# Altium footprint library 81801_1.PcbLib: 23 footprints (part 1 of 2)
Each footprint in its own frame and in the unit in brackets; x right, y up, seen from the top. Pads: shape width x height; smd on the part's side, far side on the other; paste and mask are expansions set on the pad; w line width, h text height; cw(c..) or ccw(c..) is an arc to the next point about the centre after c.
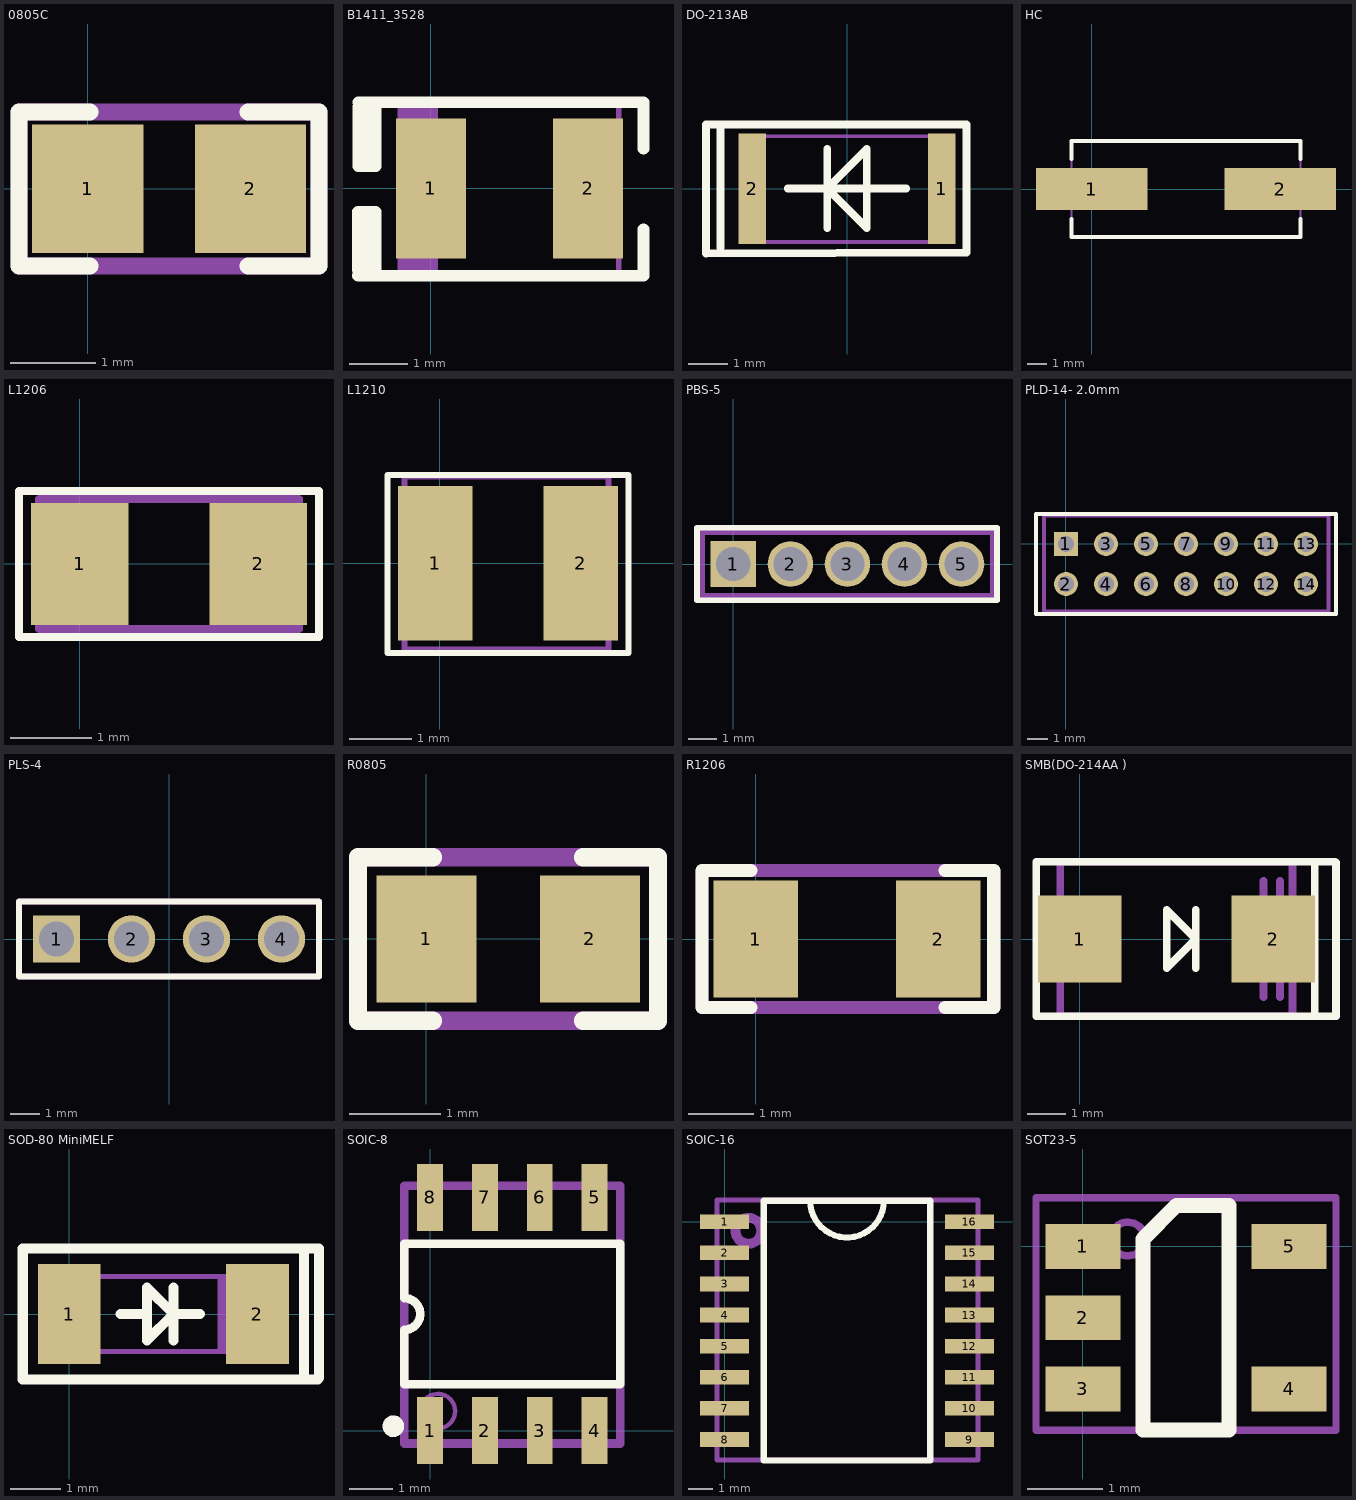
[diagram p0: the footprints below, top view; thin cyan lines are the x and y axes]

## 0805C [mm]
height 1.3
pads (2):
  rect 1.3x1.5 smd: 1(0,0) 2(1.9,0)
Top Overlay:
  lines w0.2: 0.023,0.898 -0.802,0.898 -0.801,-0.902 0.024,-0.902 ; 1.873,0.898 2.698,0.898 2.7,-0.902 1.874,-0.902
Mechanical 29:
  lines w0.2: -0.802,-0.902 2.698,-0.902 2.698,0.898 -0.802,0.898 -0.802,-0.902
  text "'.Designator'" at -0.85,-0.2 h0.4
3D body "CAP_0805.step": height 0.8, standoff 0, extent -0.401,-0.626 2.399,0.624

## B1411_3528 [mm] "Molded Capacitor, 2-Leads, Body 3.50x2.80mm, IPC Medium Density"
height 2
pads (2):
  rect 1.2x2.4 smd: 1(0,0) 2(2.7,0)
Top Overlay:
  region: -1.245,0.38 -1.245,1.48 -0.945,1.48 -0.945,0.38
  region: -1.25,-0.4 -1.25,-1.5 -0.95,-1.5 -0.95,-0.4
  lines w0.2: -1.25,-1.5 -0.95,-1.5 -0.95,-0.4 -1.25,-0.4 -1.25,-1.4 -1.15,-1.5 3.65,-1.5 3.65,-0.7 ; -1.245,1.48 -0.945,1.48 -0.945,0.38 -1.245,0.38 -1.245,1.405 -1.17,1.48 3.65,1.48 3.65,0.68
Mechanical 29:
  rectangle: -0.525,-1.45 0.125,1.45
  lines w0.1: -0.525,-1.45 3.225,-1.45 3.225,1.45 -0.525,1.45 -0.525,-1.45
  text "'.Designator'" at 0.225,-0.167 h0.4
3D body "CAP TANT - 1411 - 2.0MM.step": height 2, standoff 0, extent -0.515,-1.45 3.215,1.45

## DO-213AB [mm]
pads (2):
  rect 0.7x2.8 smd: 1(2.4,0) 2(-2.4,0)
Top Overlay:
  lines w0.2: -3.325,1.625 3.025,1.625 3.025,-1.625 -3.575,-1.648 -3.575,1.625 -3.2,1.625 -3.2,-1.5 ; -1.5,0 1.5,0 ; -0.5,-1 -0.5,1 ; -0.5,0 0.5,1 ; -0.5,0 -0.5,0 ; -0.5,0 0.5,-1 0.5,1 ; 0.5,1 0.5,1
Mechanical 29:
  lines w0.1: -2.3,-1.325 -2.3,1.325 ; -2.6,-1.35 -2.6,1.325 2.6,1.325 2.6,-1.35 -2.6,-1.35
  text "'.Designator'" at -2.2,-0.217 h0.7
3D body "User Library-Vishay - MELF DO-213AB.STEP": height 2.64, standoff -0.04, extent -2.6,-1.35 2.6,1.32

## HC [mm] "Crystal, 2-Leads, Body 4.70x11.40mm, Pitch 8.80mm, IPC Medium Density"
height 4.2
pads (2):
  rect 5.6x2.1 smd: 1(0,0) 2(9.5,0)
Top Overlay:
  lines w0.2: -1.025,-1.5 -1.025,-2.425 10.525,-2.425 10.525,-1.5 ; -1.025,1.5 -1.025,2.425 10.525,2.425 10.525,1.5
Mechanical 29:
  lines w0.1: -1.025,-2.425 -1.025,2.425 10.525,2.425 10.525,-2.425 -1.025,-2.425
  text "'.Designator'" at 0.95,-0.267 h0.7
3D body "HC49US SMT Crystal.STEP": height 4.2, standoff 0, extent -1.6,-2.35 11.1,2.35

## L1206 [mm] "L1206"
height 0.8
pads (2):
  rect 1.2x1.5 smd: 1(0,0) 2(2.2,0)
Top Overlay:
  lines w0.1: -0.75,-0.9 2.95,-0.9 2.95,0.9 -0.75,0.9 -0.75,-0.9
Mechanical 29:
  lines w0.1: -0.5,-0.8 2.7,-0.8 2.7,0.8 -0.5,0.8 -0.5,-0.8
  text "'.Designator'" at -0.3,-0.15 h0.4
3D body "Murata - LQH31.step": height 2, standoff 0, extent -0.5,-0.8 2.7,0.8

## L1210 [mm] "L1210"
height 0.8
pads (2):
  rect 1.2x2.5 smd: 1(-0.075,0) 2(2.275,0)
Top Overlay:
  lines w0.1: -0.85,-1.45 3.05,-1.45 3.05,1.425 -0.85,1.425 -0.85,-1.45
Mechanical 29:
  lines w0.1: -0.575,-1.4 2.725,-1.4 2.725,1.4 -0.575,1.4 -0.575,-1.4
  text "'.Designator'" at -0.35,-0.15 h0.4
3D body "User Library-LQH32CN.step": height 2, standoff 0, extent -0.526,-1.35 2.676,1.359

## PBS-5 [mm]
pads (5):
  rect 1.6x1.6 hole 1.2: 1(0,0)
  round 1.6 hole 1.2: 2(2,0) 3(4,0) 4(6,0) 5(8,0)
Top Overlay:
  lines w0.2: -1.275,-1.27 -1.275,1.27 9.245,1.27 9.245,-1.27 -1.275,-1.27
Mechanical 29:
  lines w0.2: -1.1,-1.125 -1.1,1.125 9.095,1.125 9.095,-1.125 -1.1,-1.125
  text "'.Designator'" at -0.25,-0.4 h0.7
3D body "User Library-PBS2-5.STEP": height 4.5, standoff -2.95, extent -1,-1 9,1

## PLD-14- 2.0mm [mm] "Connector"
pads (14):
  rect 1.2x1.2 hole 0.8: 1(0,0)
  round 1.2 hole 0.8: 2(0,-2) 3(2,0) 4(2,-2) 5(4,0) 6(4,-2) 7(6,0) 8(6,-2) 9(8,0) 10(8,-2) 11(10,0) 12(10,-2) 13(12,0) 14(12,-2)
Top Overlay:
  lines w0.2: -1.5,-3.5 -1.5,1.5 13.5,1.5 13.5,-3.5 -1.5,-3.5
Mechanical 29:
  lines w0.2: -1.1,-3.375 -1.1,1.425 13.125,1.425 13.125,-3.375 -1.1,-3.375
  text "'.Designator'" at 0.675,-1.817 h0.7
3D body "User Library-PLD2-2.step": height 5.5, standoff -2.5, extent 5,-3.3 7,1.3
3D body "User Library-PLD2-2.step": height 5.5, standoff -2.5, extent 3,-3.3 5,1.3
3D body "User Library-PLD2-2.step": height 5.5, standoff -2.5, extent -1,-3.3 1,1.3
3D body "User Library-PLD2-2.step": height 5.5, standoff -2.5, extent 1,-3.3 3,1.3
3D body "User Library-PLD2-2.step": height 5.5, standoff -2.5, extent 11,-3.3 13,1.3
3D body "User Library-PLD2-2.step": height 5.5, standoff -2.5, extent 9,-3.3 11,1.3
3D body "User Library-PLD2-2.step": height 5.5, standoff -2.5, extent 7,-3.3 9,1.3

## PLS-4 [mm]
pads (4):
  rect 1.6x1.6 hole 1.2: 1(-3.81,0)
  round 1.6 hole 1.2: 2(-1.27,0) 3(1.27,0) 4(3.81,0)
Top Overlay:
  lines w0.2: -5.08,-1.27 5.08,-1.27 5.08,1.27 -5.08,1.27 -5.08,-1.27
Mechanical 29:
  lines w0.2: -5.08,-1.27 -5.08,1.27 ; -5.08,-1.27 5.08,-1.27 ; -5.08,-1.27 -5.08,1.27 ; -5.08,-1.27 5.08,-1.27 ; -5.08,1.27 5.08,1.27 ; -5.08,1.27 5.08,1.27 ; 5.08,-1.27 5.08,1.27 ; 5.08,-1.27 5.08,1.27
  text "'.Designator'" at -1.8,-0.5 h1
3D body "User Library-1x4 TH Pitch 2_54mm.STEP": height 9.2, standoff -3.5, extent -5.08,-1.27 5.08,1.27

## R0805 [mm]
pads (2):
  rect 1.1x1.4 smd: 1(0,0) 2(1.8,0)
Top Overlay:
  lines w0.2: 0.073,0.898 -0.752,0.898 -0.751,-0.902 0.074,-0.902 ; 1.723,0.898 2.548,0.898 2.55,-0.902 1.724,-0.902
Mechanical 29:
  lines w0.2: -0.752,-0.902 -0.752,0.898 2.548,0.898 2.548,-0.902 -0.752,-0.902
  text "'.Designator'" at -0.552,-0.402 h0.7
3D body "User Library-User Library-0805_Res1.STEP": height 0.8, standoff 0, extent -0.501,-0.626 2.299,0.624

## R1206 [mm]
pads (2):
  rect 1.3x1.8 smd: 1(0,0) 2(2.8,0)
Top Overlay:
  lines w0.2: -0.075,-1.05 -0.825,-1.05 -0.825,1.05 -0.075,1.05 ; 2.9,-1.05 3.65,-1.05 3.65,1.05 2.9,1.05
Mechanical 29:
  lines w0.2: -0.825,-1.05 -0.825,1.05 3.65,1.05 3.65,-1.05 -0.825,-1.05
  text "'.Designator'" at -0.4,-0.5 h1
3D body "User Library-User Library-1206_Res1.STEP": height 1.25, standoff 0, extent -0.87,-0.8 3.67,0.8

## SMB(DO-214AA ) [mm]
pads (2):
  rect 2.16x2.26 smd: 1(0,0) 2(5,0)
Top Overlay:
  lines w0.2: 3,-0.75 3,0.75 ; 6.6,2 6.075,2 ; 6.625,1.975 6.625,-2 6.075,-2 ; 6.075,-2 6.075,2 ; 6.075,-2 -1.125,-2 -1.125,-0.025 -1.125,2 6.075,2 ; 2.25,-0.75 3,0 2.25,0.75 2.25,-0.75
Mechanical 29:
  lines w0.2: 4.75,-1.5 4.75,1.5 ; 5.175,-1.5 5.175,1.5 ; -0.5,-2 -0.5,2 5.5,2 5.5,-2 -0.5,-2
  text "'.Designator'" at 0.1,-0.3 h0.8
3D body "User Library-DO-214AC(SMA).step": height 2.29, standoff 0.01, extent -0.243,-1.397 5.243,1.397

## SOD-80 MiniMELF [mm] "Molded Diode, 2-Leads, Body 3.40x1.50mm, IPC Medium Density"
height 1.5
pads (2):
  rect 1.25x2 smd: 1(0,0) 2(3.75,0)
Top Overlay:
  lines w0.2: -0.925,0.7 -0.925,1.3 4.975,1.3 4.975,0.4 4.975,-1.275 ; -0.925,1 -0.925,-0.7 -0.925,-1.3 4.95,-1.3 ; 1.025,0 1.55,0 ; 2.075,-0.525 2.075,0.525 ; 2.6,0 2.075,0 ; 4.675,-1.2 4.675,-0.4 4.675,0.4 4.675,1.2 ; 2.075,0 1.55,0.525 1.55,-0.525 2.075,0
Mechanical 29:
  rectangle: 2.956,-0.75 3.575,0.75
  lines w0.1: 0.175,-0.75 3.575,-0.75 3.575,0.75 0.175,0.75 0.175,-0.75
  text "'.Designator'" at 0.645,-0.063 h0.2
3D body "SOD-80 MiniMELF.step": height 1.5, standoff 0, extent 0.175,-0.751 3.575,0.751

## SOIC-8 [mm] "Small Outline; 8 Leads; Body Width 3.9 mm; Pitch 1.27 mm"
height 1.75
pads (8):
  rect 0.6x1.55 smd: 1(0,0) 2(1.27,0) 3(2.54,0) 4(3.81,0) 5(3.81,5.4) 6(2.54,5.4) 7(1.27,5.4) 8(0,5.4)
Top Overlay:
  circle w0.25: c-0.85,0.1 r0.125
  lines w0.2: -0.595,2.333 ccw(c-0.595,2.7) -0.595,3.067 -0.595,4.325 4.405,4.325 4.405,1.075 -0.595,1.075 -0.595,2.333
Mechanical 29:
  circle w0.1: c0.18,0.45 r0.4
  circle w0.254: c-0.02,0.075 r0.079
  lines w0.2: 4.355,-0.3 -0.595,-0.3 -0.595,4.3 -0.595,5.675 4.405,5.675 4.405,-0.3
  text "'.Designator'" at -0.02,2.45 h1
3D body "User Library-SOIC-8-1.STEP": height 1.75, standoff 0, extent -0.545,-0.3 4.355,5.7

## SOIC-16 [mm]
pads (16):
  rect 2x0.6 smd: 1(0,0) 2(0,-1.27) 3(0,-2.54) 4(0,-3.81) 5(0,-5.08) 6(0,-6.35) 7(0,-7.62) 8(0,-8.89) 9(10,-8.89) 10(10,-7.62) 11(10,-6.35) 12(10,-5.08) 13(10,-3.81) 14(10,-2.54) 15(10,-1.27) 16(10,0)
Top Overlay:
  lines w0.25: 3.5,0.855 ccw(c5,0.855) 6.5,0.855
  lines w0.254: 1.6,-9.745 8.4,-9.745 8.4,0.855 1.6,0.855 1.6,-9.745
Mechanical 29:
  circle w0.4: c0.975,-0.37 r0.527
  lines w0.2: -0.3,-9.72 10.35,-9.72 10.35,0.88 -0.3,0.88 -0.3,-9.72
  text "'.Designator'" at 4.5,-0.42 h1.3
3D body "User Library-SOIC16_Wide_JEDEC_MS-013AA.STEP": height 2.72, standoff 0.07, extent -0.315,-9.68 10.315,0.82

## SOT23-5 [mm]
height 1.2
pads (5):
  rect 1x0.6 smd: 1(0,0) 2(0,-0.95) 3(0,-1.9) 4(2.75,-1.9) 5(2.75,0)
Top Overlay:
  lines w0.2: 0.8,-2.45 1.95,-2.45 1.95,0.55 1.25,0.55 0.8,0.1 0.8,-2.45
Mechanical 29:
  circle w0.1: c0.6,0.1 r0.225
  lines w0.1: -0.625,-2.45 -0.625,0.65 3.375,0.65 3.375,-2.45 -0.625,-2.45
  text "'.Designator'" at 1.375,0.2 h0.39
3D body "SOT-23-5.step": height 1.08, standoff -0.02, extent 0.125,-2.45 2.625,0.55